# EAGLE library part INA231 (library INA231)
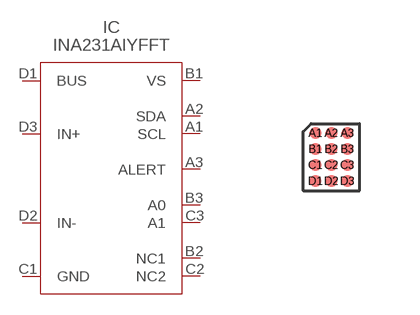
[diagram p0: symbol with the pads of INA231; footprint INA231]

Designator prefix IC

## INA231  [INA231]
A1  SCL  in
A2  SDA
A3  ALERT  out
B1  VS  pwr
B2  NC1  nc
B3  A0  in
C1  GND  pwr
C2  NC2  nc
C3  A1  in
D1  BUS  in
D2  IN-  in
D3  IN+  in

## Footprint INA231 (pad centres in mm)
smd 0.3 x 0.3: A1 -0.4,0.6; A2 0,0.6; A3 0.4,0.6; B1 -0.4,0.2; B2 0,0.2; B3 0.4,0.2; C1 -0.4,-0.2; C2 0,-0.2; C3 0.4,-0.2; D1 -0.4,-0.6; D2 0,-0.6; D3 0.4,-0.6